# Altium integrated library TI Amplifiers and Linear Special Function Amplifier.IntLib: 708 symbols (part 47 of 47)
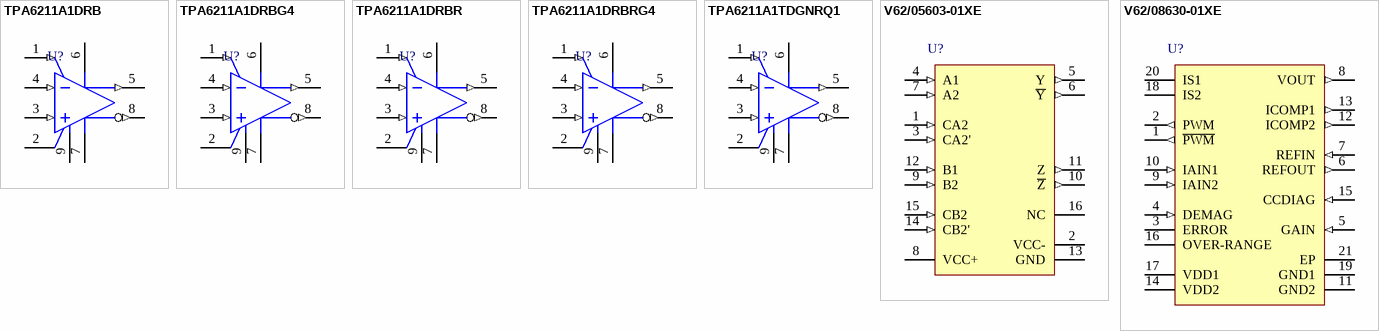
[diagram p85: symbols TPA6211A1DRB to V62/08630-01XE]

## TPA6211A1DRBRG4
designator U?
3.1-W Mono, Fully Differential, Class-AB Audio Amplifier, -40 to 85 degC, 8-pin SON (DRB8), Green (RoHS & no Sb/Br); Manufacturer: Texas Instruments; PartNumber: TPA6211A1DRBRG4; Output Power(W): 2.45; PSRR(dB): -85; SubFamily: Dynamic Speaker; Supply Max(Max)(Volt): 5.5; Supply Min(Min)(Volt): 2.5; DatasheetVersion: SLOS367D; PackageVersion: 4203482-2/K, 06/2012; PackageReference: DRB8-1750X1500TP; PackageDescription: 8-Pin Plastic Small Outline, Body 3 x 3 mm, Pitch 0.65 mm; Supplier 1: Digi-Key; Supplier Part Number 1: TPA6211A1DRBRG4-ND; Supplier 2: Mouser; Supplier Part Number 2: 595-TPA6211A1DRBRG4; Eco-Plan: Green (RoHS & no Sb/Br); Speaker Amp Type: Class-AB; Speaker Channels: Mono; Mounting Technology: Surface Mount; ComponentLink1Description: Manufacturer URL; ComponentLink1URL: http://www.ti.com/; ComponentLink2Description: Datasheet; ComponentLink2URL: http://www.ti.com/general/docs/lit/getliterature.tsp?genericPartNumber=TPA6211A1&fileType=pdf; ComponentLink3Description: Package Specification; ComponentLink3URL: http://www.ti.com/litv/pdf/mpds118h
footprint TI-DRB8-1750X1500TP_V (SON, 8-Leads, Body 3x3mm, Pitch 0.65mm, Thermal Pad 1.50 x 3.8mm)
pins: 1 ~{SHUTDOWN} (in) "Shutdown terminal (active low logic)", 2 BYPASS "Mid-supply voltage. Adding a bypass capacitor improves PSRR.", 3 IN+ (in) "Positive differential input", 4 IN- (in) "Negative differential input", 5 VO+ (out) "Positive BTL output", 6 VDD (power) "Supply voltage terminal", 7 GND (power) "High-current ground", 8 VO- (out) "Negative BTL output", 9 EP (power) "Connect to ground. Thermal pad must be soldered down in all applications to properly secure device on the PCB."

## TPA6211A1TDGNRQ1
designator U?
Automotive Catalog 3.1-W Mono, Fully Differential, Class-AB Audio Amplifier, -40 to 105 degC, 8-pin SOP (DGN8), Green (RoHS & no Sb/Br); Manufacturer: Texas Instruments; PartNumber: TPA6211A1TDGNRQ1; Output Power(W): 2.45; PSRR(dB): -85; SubFamily: Dynamic Speaker; Supply Max(Max)(Volt): 5.5; Supply Min(Min)(Volt): 2.5; DatasheetVersion: SBOS555; PackageVersion: 4073271/F, 05/2011; PackageReference: DGN8-1760X1425TP; PackageDescription: 8-Pin Plastic Small Outline, Body 3 x 3 mm, Pitch 0.65 mm; Supplier 1: Digi-Key; Supplier Part Number 1: 296-29059-2-ND; Supplier 2: Digi-Key; Supplier Part Number 2: 296-29059-1-ND; Supplier 3: Digi-Key; Supplier Part Number 3: 296-29059-6-ND; Supplier 4: Mouser; Supplier Part Number 4: 595-TPA6211A1TDGNRQ1; Eco-Plan: Green (RoHS & no Sb/Br); Speaker Amp Type: Class-AB; Speaker Channels: Mono; Mounting Technology: Surface Mount; Code_JEDEC: MO-187; ComponentLink1Description: Manufacturer URL; ComponentLink1URL: http://www.ti.com/; ComponentLink2Description: Datasheet; ComponentLink2URL: http://www.ti.com/general/docs/lit/getliterature.tsp?genericPartNumber=TPA6211A1-Q1&fileType=pdf; ComponentLink3Description: Package Specification; ComponentLink3URL: http://www.ti.com/litv/pdf/mpds046e
footprint TI-DGN8-1760X1425TP_N (SOP, 8-Leads, Body 3.1x3.1mm, Pitch 0.65mm, Thermal Pad 1.89x1.57mm, IPC Medium Density)
footprint TI-DGN8-1760X1425TP_L (SOP, 8-Leads, Body 3.1x3.1mm, Pitch 0.65mm, Thermal Pad 1.89x1.57mm, IPC High Density)
footprint TI-DGN8-1760X1425TP_M (SOP, 8-Leads, Body 3.1x3.1mm, Pitch 0.65mm, Thermal Pad 1.89x1.57mm, IPC Low Density)
pins: 1 ~{SHUTDOWN} (in) "Shutdown terminal (active low logic)", 2 BYPASS "Mid-supply voltage. Adding a bypass capacitor improves PSRR.", 3 IN+ (in) "Positive differential input", 4 IN- (in) "Negative differential input", 5 VO+ (out) "Positive BTL output", 6 VDD (power) "Supply voltage terminal", 7 GND (power) "High-current ground", 8 VO- (out) "Negative BTL output", 9 EP (power) "Connect to ground. Thermal pad must be soldered down in all applications to properly secure device on the PCB."

## V62/05603-01XE
designator U?
Enhanced Product Logarithmic Amplifier, -55 to 125 degC, 16-pin SOP (NS16), Green (RoHS & no Sb/Br); Manufacturer: Texas Instruments; PartNumber: V62/05603-01XE; Full-Scale Output Voltage(Max)(+/- V): 5.85; Full-Scale Output Voltage(Min)(+/- V): 5.45; Iq(Max)(mA): 23; Offset Voltage (Input Amplifiers)(Max)(mV): +/- 70; DatasheetVersion: SGLS268; PackageVersion: 4040062/C, 03/2003; PackageReference: NS16; PackageDescription: 16-Pin Plastic Small Outline, Body 10.20 x 5.30 mm, Pitch 1.27 mm; Supplier 1: Mouser; Supplier Part Number 1: 595-V62/05603-01XE; Eco-Plan: Green (RoHS & no Sb/Br); SubFamily: Logarithmic Amplifier; Mounting Technology: Surface Mount; ComponentLink1Description: Manufacturer URL; ComponentLink1URL: http://www.ti.com/; ComponentLink2Description: Datasheet; ComponentLink2URL: http://www.ti.com/general/docs/lit/getliterature.tsp?genericPartNumber=TL441-EP&fileType=pdf; ComponentLink3Description: Package Specification; ComponentLink3URL: http://www.ti.com/litv/pdf/msop002a
footprint TI-NS16_N (SOP, 16-Leads, Body 10.2x5.3mm, Pitch 1.27mm, IPC Medium Density)
footprint TI-NS16_L (SOP, 16-Leads, Body 10.2x5.3mm, Pitch 1.27mm, IPC High Density)
footprint TI-NS16_M (SOP, 16-Leads, Body 10.2x5.3mm, Pitch 1.27mm, IPC Low Density)
pins: 1 CA2 (in), 2 VCC- (power), 3 CA2' (in), 4 A1 (in), 5 Y (out), 6 ~{Y} (out), 7 A2 (in), 8 VCC+ (power), 9 B2 (in), 10 ~{Z} (out), 11 Z (out), 12 B1 (in), 13 GND (power), 14 CB2' (in), 15 CB2 (in), 16 NC

## V62/08630-01XE
designator U?
Enhanced Product Sensor Signal Conditioning for Closed-Loop Magnetic Current Sensor, -50 to 150 degC, 20-pin SOP (DWP20), Green (RoHS & no Sb/Br); Manufacturer: Texas Instruments; PartNumber: V62/08630-01XE; Iq(Max)(mA): 6.8; Vs(Max)(V): 5.5; Vs(Min)(V): 4.5; DatasheetVersion: SBVS104B; PackageVersion: 4147575/C, 02/2005; PackageReference: DWP20-3730X2350TP; PackageDescription: 20-Pin PowerPAD(TM) Plastic Small-Outline Package, Body 12.825 x 7.52 mm, Pitch 1.27 mm; Supplier 1: Mouser; Supplier Part Number 1: 595-V62/08630-01XE; Eco-Plan: Green (RoHS & no Sb/Br); Mounting Technology: Surface Mount; ComponentLink1Description: Manufacturer URL; ComponentLink1URL: http://www.ti.com/; ComponentLink2Description: Datasheet; ComponentLink2URL: http://www.ti.com/general/docs/lit/getliterature.tsp?genericPartNumber=DRV401-EP&fileType=pdf; ComponentLink3Description: Package Specification; ComponentLink3URL: http://www.ti.com/litv/pdf/mpds032b
footprint TI-DWP20-3730X2350TP_N (SOP, 20-Leads, Body 12.825x7.52mm, Pitch 1.27mm, Thermal Pad 3.47X2.35mm, IPC Medium Density)
footprint TI-DWP20-3730X2350TP_L (SOP, 20-Leads, Body 12.825x7.52mm, Pitch 1.27mm, Thermal Pad 3.47X2.35mm, IPC High Density)
footprint TI-DWP20-3730X2350TP_M (SOP, 20-Leads, Body 12.825x7.52mm, Pitch 1.27mm, Thermal Pad 3.47X2.35mm, IPC Low Density)
pins: 1 ~{PWM} (out) "PWM output from probe circuit (inverted).", 2 PWM (out) "PWM output from probe circuit.", 3 ERROR (oc) "Error flag: open-drain output, see the Error Conditions section.", 4 DEMAG (in) "Control input, see the Demagnetization section.", 5 GAIN (in) "Control input for open-loop gain: low = normal, high = -8 dB.", 6 REFOUT (out) "Output for internal 2.5 V reference voltage.", 7 REFIN (in) "Input for zero reference to differential amplifier.", 8 VOUT (out) "Output for differential amplifier.", 9 IAIN2 (in) "Connect to GND1.Noninverting input of differential amplifier.", 10 IAIN1 (in) "Inverting input of differential amplifier.", 11 GND2 (power) "Ground connection.", 12 ICOMP2 (out) "Output 2 of compensation coil driver.", 13 ICOMP1 (out) "Output 1 of compensation coil driver.", 14 VDD2 (power) "Supply voltage. Connect to VDD1.", 15 CCDIAG (in) "Control input for wire-break detection: high = enable.", 16 OVER-RANGE (oc) "Open-drain output for over-range indication: low = over-range.", 17 VDD1 (power) "Supply voltage.", 18 IS2 "Probe connection 2.", 19 GND1 (power) "Ground connection.", 20 IS1 "Probe connection 1.", 21 EP (power) "Connect to GND1."